# Altium footprint library Connector_Molex.PcbLib: 815 footprints (part 46 of 51)
Each footprint in its own frame and in the unit in brackets; x right, y up, seen from the top. Pads: shape width x height; smd on the part's side, far side on the other; paste and mask are expansions set on the pad; w line width, h text height; cw(c..) or ccw(c..) is an arc to the next point about the centre after c.
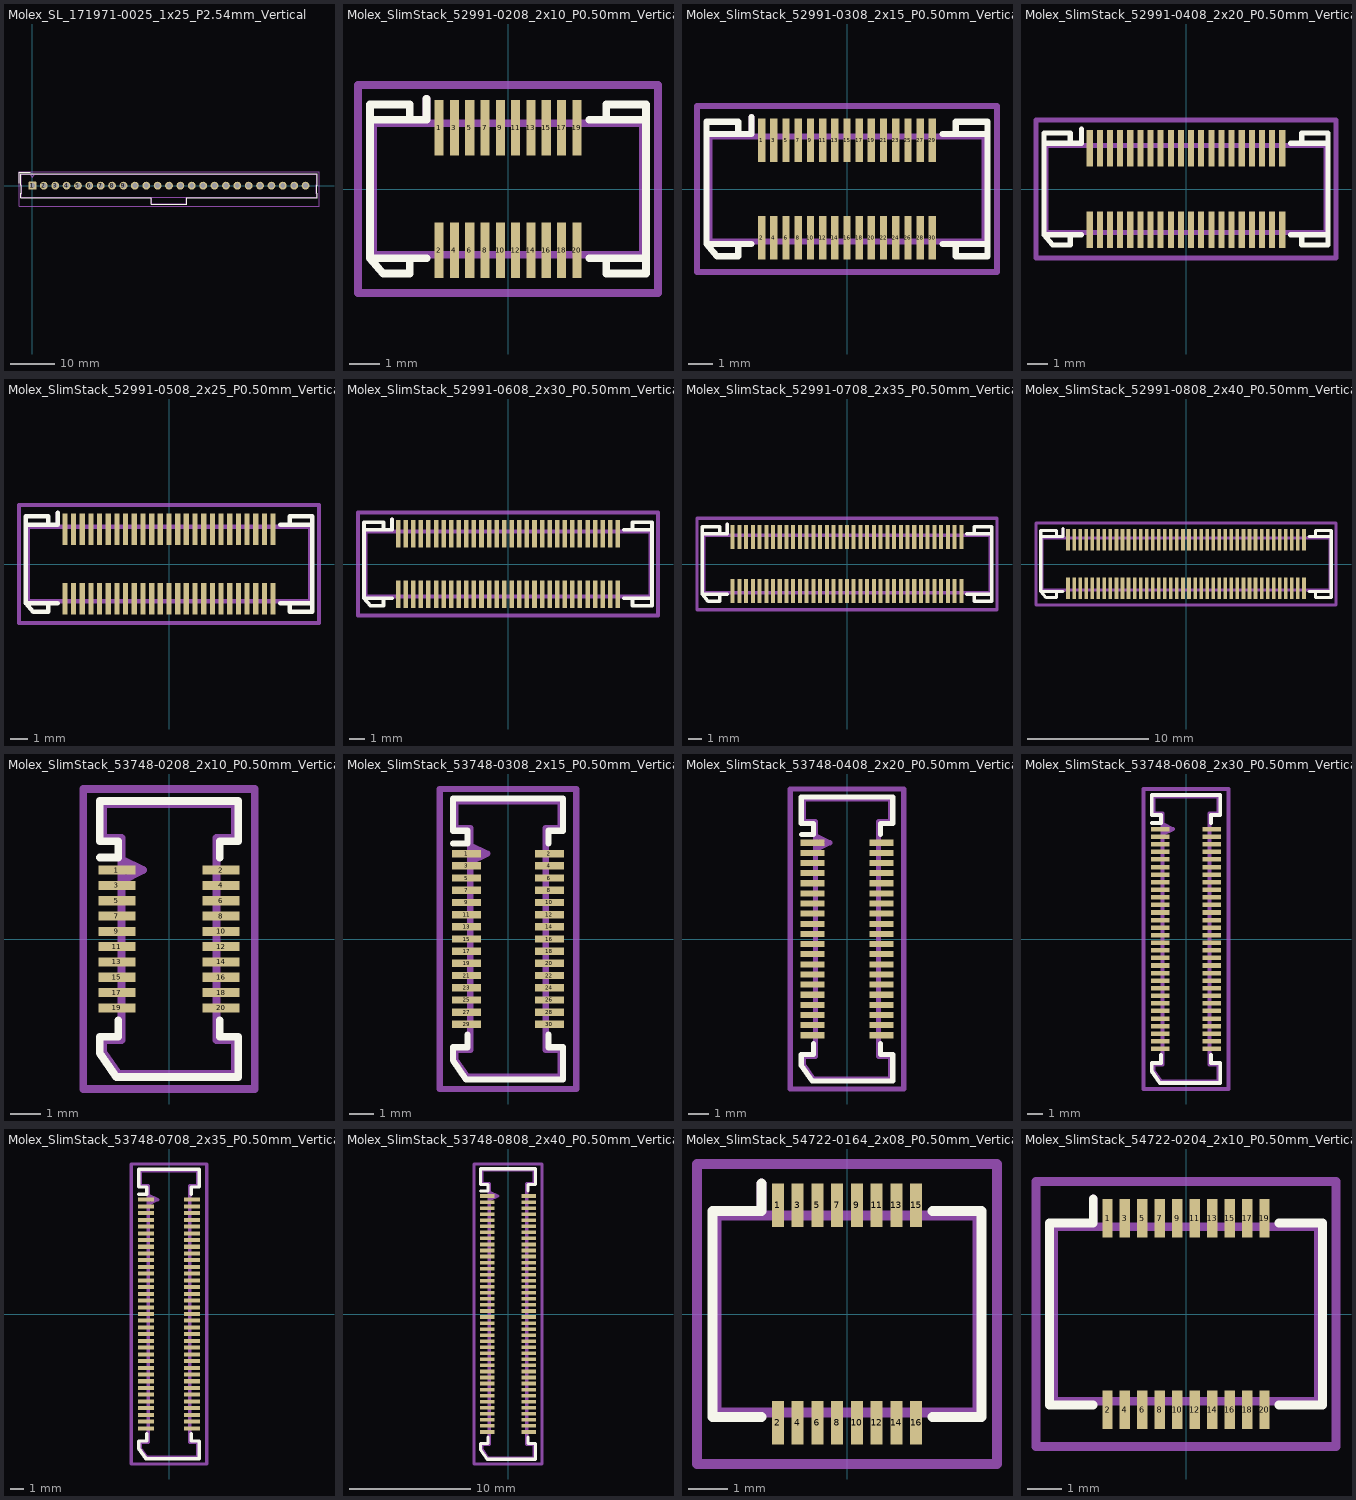
[diagram p45: the footprints below, top view; thin cyan lines are the x and y axes]

## Molex_SL_171971-0025_1x25_P2.54mm_Vertical [mm]
pads (25):
  rrect14% 1.74x1.74 hole 1.09: 1(0,0)
  round 1.74 hole 1.09: 2(2.54,0) 3(5.08,0) 4(7.62,0) 5(10.16,0) 6(12.7,0) 7(15.24,0) 8(17.78,0) 9(20.32,0) 10(22.86,0) 11(25.4,0) 12(27.94,0) 13(30.48,0) 14(33.02,0) 15(35.56,0) 16(38.1,0) 17(40.64,0) 18(43.18,0) 19(45.72,0) 20(48.26,0) 21(50.8,0) 22(53.34,0) 23(55.88,0) 24(58.42,0) 25(60.96,0)
F.SilkS:
  lines w0.254: -2.91,0.55 -2.91,2.96 -0.5,2.96 ; -2.61,-2.66 26.56,-2.66 26.56,-4.16 34.4,-4.16 34.4,-2.66 63.57,-2.66 63.57,-1.68 63.44,-1.68 63.44,0.13 63.57,0.13 63.57,2.66 -2.61,2.66 -2.61,0.13 -2.48,0.13 -2.48,-1.68 -2.61,-1.68 -2.61,-2.66
Top Assembly:
  lines w0.254: -0.5,2.55 0,1.843 0.5,2.55 ; 26.67,-2.55 26.67,-4.05 34.29,-4.05 34.29,-2.55 ; -2.5,-2.55 63.46,-2.55 63.46,-1.79 63.33,-1.79 63.33,0.24 63.46,0.24 63.46,2.55 -2.5,2.55 -2.5,0.24 -2.37,0.24 -2.37,-1.79 -2.5,-1.79 -2.5,-2.55
  text "'.Designator'" at 26.433,-2.69 h1
Top Courtyard:
  lines w0.254: -3,-4.55 63.96,-4.55 63.96,3.05 -3,3.05 -3,-4.55
Top Designator:
  text ".Designator" at 22.862,-1.258 h1.52

## Molex_SlimStack_52991-0208_2x10_P0.50mm_Vertical [mm]
pads (20):
  rect 0.3x1.8 smd: 1(-2.25,2) 2(-2.25,-2) 3(-1.75,2) 4(-1.75,-2) 5(-1.25,2) 6(-1.25,-2) 7(-0.75,2) 8(-0.75,-2) 9(-0.25,2) 10(-0.25,-2) 11(0.25,2) 12(0.25,-2) 13(0.75,2) 14(0.75,-2) 15(1.25,2) 16(1.25,-2) 17(1.75,2) 18(1.75,-2) 19(2.25,2) 20(2.25,-2)
F.SilkS:
  lines w0.254: -3.21,-2.26 -3.21,-2.76 -4.077,-2.76 -4.51,-2.26 ; -3.21,2.26 -3.21,2.76 -4.51,2.76 -4.51,2.26 ; -2.66,-2.26 -4.51,-2.26 ; -2.66,2.95 -2.66,2.26 -4.51,2.26 ; 2.66,-2.26 4.51,-2.26 ; 2.66,2.26 4.51,2.26 ; 3.21,-2.26 3.21,-2.76 4.51,-2.76 4.51,-2.26 ; 3.21,2.26 3.21,2.76 4.51,2.76 4.51,2.26 ; -4.51,-2.26 -4.51,2.26 ; 4.51,-2.26 4.51,2.26
Top Assembly:
  lines w0.254: -2.66,2.26 -2.66,2.95 ; -4.4,-2.15 4.4,-2.15 4.4,2.15 -4.4,2.15 -4.4,-2.15
  text "'.Designator'" at -4.047,-0.84 h1
Top Courtyard:
  lines w0.254: -4.9,-3.4 4.9,-3.4 4.9,3.4 -4.9,3.4 -4.9,-3.4
Top Designator:
  text ".Designator" at -7.618,-0.508 h1.52

## Molex_SlimStack_52991-0308_2x15_P0.50mm_Vertical [mm]
pads (30):
  rect 0.3x1.8 smd: 1(-3.5,2) 2(-3.5,-2) 3(-3,2) 4(-3,-2) 5(-2.5,2) 6(-2.5,-2) 7(-2,2) 8(-2,-2) 9(-1.5,2) 10(-1.5,-2) 11(-1,2) 12(-1,-2) 13(-0.5,2) 14(-0.5,-2) 15(0,2) 16(0,-2) 17(0.5,2) 18(0.5,-2) 19(1,2) 20(1,-2) 21(1.5,2) 22(1.5,-2) 23(2,2) 24(2,-2) 25(2.5,2) 26(2.5,-2) 27(3,2) 28(3,-2) 29(3.5,2) 30(3.5,-2)
F.SilkS:
  lines w0.254: -4.46,-2.26 -4.46,-2.76 -5.327,-2.76 -5.76,-2.26 ; -4.46,2.26 -4.46,2.76 -5.76,2.76 -5.76,2.26 ; -3.91,-2.26 -5.76,-2.26 ; -3.91,2.95 -3.91,2.26 -5.76,2.26 ; 3.91,-2.26 5.76,-2.26 ; 3.91,2.26 5.76,2.26 ; 4.46,-2.26 4.46,-2.76 5.76,-2.76 5.76,-2.26 ; 4.46,2.26 4.46,2.76 5.76,2.76 5.76,2.26 ; -5.76,-2.26 -5.76,2.26 ; 5.76,-2.26 5.76,2.26
Top Assembly:
  lines w0.254: -3.91,2.26 -3.91,2.95 ; -5.65,-2.15 5.65,-2.15 5.65,2.15 -5.65,2.15 -5.65,-2.15
  text "'.Designator'" at -4.047,-0.84 h1
Top Courtyard:
  lines w0.254: -6.15,-3.4 6.15,-3.4 6.15,3.4 -6.15,3.4 -6.15,-3.4
Top Designator:
  text ".Designator" at -7.618,-0.508 h1.52

## Molex_SlimStack_52991-0408_2x20_P0.50mm_Vertical [mm]
pads (40):
  rect 0.3x1.8 smd: 1(-4.75,2) 2(-4.75,-2) 3(-4.25,2) 4(-4.25,-2) 5(-3.75,2) 6(-3.75,-2) 7(-3.25,2) 8(-3.25,-2) 9(-2.75,2) 10(-2.75,-2) 11(-2.25,2) 12(-2.25,-2) 13(-1.75,2) 14(-1.75,-2) 15(-1.25,2) 16(-1.25,-2) 17(-0.75,2) 18(-0.75,-2) 19(-0.25,2) 20(-0.25,-2) 21(0.25,2) 22(0.25,-2) 23(0.75,2) 24(0.75,-2) 25(1.25,2) 26(1.25,-2) 27(1.75,2) 28(1.75,-2) 29(2.25,2) 30(2.25,-2) 31(2.75,2) 32(2.75,-2) 33(3.25,2) 34(3.25,-2) 35(3.75,2) 36(3.75,-2) 37(4.25,2) 38(4.25,-2) 39(4.75,2) 40(4.75,-2)
F.SilkS:
  lines w0.254: -5.71,-2.26 -5.71,-2.76 -6.577,-2.76 -7.01,-2.26 ; -5.71,2.26 -5.71,2.76 -7.01,2.76 -7.01,2.26 ; -5.16,-2.26 -7.01,-2.26 ; -5.16,2.95 -5.16,2.26 -7.01,2.26 ; 5.16,-2.26 7.01,-2.26 ; 5.16,2.26 7.01,2.26 ; 5.71,-2.26 5.71,-2.76 7.01,-2.76 7.01,-2.26 ; 5.71,2.26 5.71,2.76 7.01,2.76 7.01,2.26 ; -7.01,-2.26 -7.01,2.26 ; 7.01,-2.26 7.01,2.26
Top Assembly:
  lines w0.254: -5.16,2.26 -5.16,2.95 ; -6.9,-2.15 6.9,-2.15 6.9,2.15 -6.9,2.15 -6.9,-2.15
  text "'.Designator'" at -4.047,-0.84 h1
Top Courtyard:
  lines w0.254: -7.4,-3.4 7.4,-3.4 7.4,3.4 -7.4,3.4 -7.4,-3.4
Top Designator:
  text ".Designator" at -7.618,-0.508 h1.52

## Molex_SlimStack_52991-0508_2x25_P0.50mm_Vertical [mm]
pads (50):
  rect 0.3x1.8 smd: 1(-6,2) 2(-6,-2) 3(-5.5,2) 4(-5.5,-2) 5(-5,2) 6(-5,-2) 7(-4.5,2) 8(-4.5,-2) 9(-4,2) 10(-4,-2) 11(-3.5,2) 12(-3.5,-2) 13(-3,2) 14(-3,-2) 15(-2.5,2) 16(-2.5,-2) 17(-2,2) 18(-2,-2) 19(-1.5,2) 20(-1.5,-2) 21(-1,2) 22(-1,-2) 23(-0.5,2) 24(-0.5,-2) 25(0,2) 26(0,-2) 27(0.5,2) 28(0.5,-2) 29(1,2) 30(1,-2) 31(1.5,2) 32(1.5,-2) 33(2,2) 34(2,-2) 35(2.5,2) 36(2.5,-2) 37(3,2) 38(3,-2) 39(3.5,2) 40(3.5,-2) 41(4,2) 42(4,-2) 43(4.5,2) 44(4.5,-2) 45(5,2) 46(5,-2) 47(5.5,2) 48(5.5,-2) 49(6,2) 50(6,-2)
F.SilkS:
  lines w0.254: -6.96,-2.26 -6.96,-2.76 -7.827,-2.76 -8.26,-2.26 ; -6.96,2.26 -6.96,2.76 -8.26,2.76 -8.26,2.26 ; -6.41,-2.26 -8.26,-2.26 ; -6.41,2.95 -6.41,2.26 -8.26,2.26 ; 6.41,-2.26 8.26,-2.26 ; 6.41,2.26 8.26,2.26 ; 6.96,-2.26 6.96,-2.76 8.26,-2.76 8.26,-2.26 ; 6.96,2.26 6.96,2.76 8.26,2.76 8.26,2.26 ; -8.26,-2.26 -8.26,2.26 ; 8.26,-2.26 8.26,2.26
Top Assembly:
  lines w0.254: -6.41,2.26 -6.41,2.95 ; -8.15,-2.15 -8.15,2.15 8.15,2.15 8.15,-2.15 -8.15,-2.15
  text "'.Designator'" at -4.047,-0.84 h1
Top Courtyard:
  lines w0.254: -8.65,-3.4 -8.65,3.4 8.65,3.4 8.65,-3.4 -8.65,-3.4
Top Designator:
  text ".Designator" at -7.618,-0.508 h1.52

## Molex_SlimStack_52991-0608_2x30_P0.50mm_Vertical [mm]
pads (60):
  rect 0.3x1.8 smd: 1(-7.25,2) 2(-7.25,-2) 3(-6.75,2) 4(-6.75,-2) 5(-6.25,2) 6(-6.25,-2) 7(-5.75,2) 8(-5.75,-2) 9(-5.25,2) 10(-5.25,-2) 11(-4.75,2) 12(-4.75,-2) 13(-4.25,2) 14(-4.25,-2) 15(-3.75,2) 16(-3.75,-2) 17(-3.25,2) 18(-3.25,-2) 19(-2.75,2) 20(-2.75,-2) 21(-2.25,2) 22(-2.25,-2) 23(-1.75,2) 24(-1.75,-2) 25(-1.25,2) 26(-1.25,-2) 27(-0.75,2) 28(-0.75,-2) 29(-0.25,2) 30(-0.25,-2) 31(0.25,2) 32(0.25,-2) 33(0.75,2) 34(0.75,-2) 35(1.25,2) 36(1.25,-2) 37(1.75,2) 38(1.75,-2) 39(2.25,2) 40(2.25,-2) 41(2.75,2) 42(2.75,-2) 43(3.25,2) 44(3.25,-2) 45(3.75,2) 46(3.75,-2) 47(4.25,2) 48(4.25,-2) 49(4.75,2) 50(4.75,-2) 51(5.25,2) 52(5.25,-2) 53(5.75,2) 54(5.75,-2) 55(6.25,2) 56(6.25,-2) 57(6.75,2) 58(6.75,-2) 59(7.25,2) 60(7.25,-2)
F.SilkS:
  lines w0.254: -8.21,-2.26 -8.21,-2.76 -9.077,-2.76 -9.51,-2.26 ; -8.21,2.26 -8.21,2.76 -9.51,2.76 -9.51,2.26 ; -7.66,-2.26 -9.51,-2.26 ; -7.66,2.95 -7.66,2.26 -9.51,2.26 ; 7.66,-2.26 9.51,-2.26 ; 7.66,2.26 9.51,2.26 ; 8.21,-2.26 8.21,-2.76 9.51,-2.76 9.51,-2.26 ; 8.21,2.26 8.21,2.76 9.51,2.76 9.51,2.26 ; -9.51,-2.26 -9.51,2.26 ; 9.51,-2.26 9.51,2.26
Top Assembly:
  lines w0.254: -7.66,2.26 -7.66,2.95 ; -9.4,-2.15 9.4,-2.15 9.4,2.15 -9.4,2.15 -9.4,-2.15
  text "'.Designator'" at -4.047,-0.84 h1
Top Courtyard:
  lines w0.254: -9.9,-3.4 9.9,-3.4 9.9,3.4 -9.9,3.4 -9.9,-3.4
Top Designator:
  text ".Designator" at -7.618,-0.508 h1.52

## Molex_SlimStack_52991-0708_2x35_P0.50mm_Vertical [mm]
pads (70):
  rect 0.3x1.8 smd: 1(-8.5,2) 2(-8.5,-2) 3(-8,2) 4(-8,-2) 5(-7.5,2) 6(-7.5,-2) 7(-7,2) 8(-7,-2) 9(-6.5,2) 10(-6.5,-2) 11(-6,2) 12(-6,-2) 13(-5.5,2) 14(-5.5,-2) 15(-5,2) 16(-5,-2) 17(-4.5,2) 18(-4.5,-2) 19(-4,2) 20(-4,-2) 21(-3.5,2) 22(-3.5,-2) 23(-3,2) 24(-3,-2) 25(-2.5,2) 26(-2.5,-2) 27(-2,2) 28(-2,-2) 29(-1.5,2) 30(-1.5,-2) 31(-1,2) 32(-1,-2) 33(-0.5,2) 34(-0.5,-2) 35(0,2) 36(0,-2) 37(0.5,2) 38(0.5,-2) 39(1,2) 40(1,-2) 41(1.5,2) 42(1.5,-2) 43(2,2) 44(2,-2) 45(2.5,2) 46(2.5,-2) 47(3,2) 48(3,-2) 49(3.5,2) 50(3.5,-2) 51(4,2) 52(4,-2) 53(4.5,2) 54(4.5,-2) 55(5,2) 56(5,-2) 57(5.5,2) 58(5.5,-2) 59(6,2) 60(6,-2) 61(6.5,2) 62(6.5,-2) 63(7,2) 64(7,-2) 65(7.5,2) 66(7.5,-2) 67(8,2) 68(8,-2) 69(8.5,2) 70(8.5,-2)
F.SilkS:
  lines w0.254: -9.46,-2.26 -9.46,-2.76 -10.327,-2.76 -10.76,-2.26 ; -9.46,2.26 -9.46,2.76 -10.76,2.76 -10.76,2.26 ; -8.91,-2.26 -10.76,-2.26 ; -8.91,2.95 -8.91,2.26 -10.76,2.26 ; 8.91,-2.26 10.76,-2.26 ; 8.91,2.26 10.76,2.26 ; 9.46,-2.26 9.46,-2.76 10.76,-2.76 10.76,-2.26 ; 9.46,2.26 9.46,2.76 10.76,2.76 10.76,2.26 ; -10.76,-2.26 -10.76,2.26 ; 10.76,-2.26 10.76,2.26
Top Assembly:
  lines w0.254: -8.91,2.26 -8.91,2.95 ; -10.65,-2.15 10.65,-2.15 10.65,2.15 -10.65,2.15 -10.65,-2.15
  text "'.Designator'" at -4.047,-0.84 h1
Top Courtyard:
  lines w0.254: -11.15,-3.4 11.15,-3.4 11.15,3.4 -11.15,3.4 -11.15,-3.4
Top Designator:
  text ".Designator" at -7.618,-0.508 h1.52

## Molex_SlimStack_52991-0808_2x40_P0.50mm_Vertical [mm]
pads (80):
  rect 0.3x1.8 smd: 1(-9.75,2) 2(-9.75,-2) 3(-9.25,2) 4(-9.25,-2) 5(-8.75,2) 6(-8.75,-2) 7(-8.25,2) 8(-8.25,-2) 9(-7.75,2) 10(-7.75,-2) 11(-7.25,2) 12(-7.25,-2) 13(-6.75,2) 14(-6.75,-2) 15(-6.25,2) 16(-6.25,-2) 17(-5.75,2) 18(-5.75,-2) 19(-5.25,2) 20(-5.25,-2) 21(-4.75,2) 22(-4.75,-2) 23(-4.25,2) 24(-4.25,-2) 25(-3.75,2) 26(-3.75,-2) 27(-3.25,2) 28(-3.25,-2) 29(-2.75,2) 30(-2.75,-2) 31(-2.25,2) 32(-2.25,-2) 33(-1.75,2) 34(-1.75,-2) 35(-1.25,2) 36(-1.25,-2) 37(-0.75,2) 38(-0.75,-2) 39(-0.25,2) 40(-0.25,-2) 41(0.25,2) 42(0.25,-2) 43(0.75,2) 44(0.75,-2) 45(1.25,2) 46(1.25,-2) 47(1.75,2) 48(1.75,-2) 49(2.25,2) 50(2.25,-2) 51(2.75,2) 52(2.75,-2) 53(3.25,2) 54(3.25,-2) 55(3.75,2) 56(3.75,-2) 57(4.25,2) 58(4.25,-2) 59(4.75,2) 60(4.75,-2) 61(5.25,2) 62(5.25,-2) 63(5.75,2) 64(5.75,-2) 65(6.25,2) 66(6.25,-2) 67(6.75,2) 68(6.75,-2) 69(7.25,2) 70(7.25,-2) 71(7.75,2) 72(7.75,-2) 73(8.25,2) 74(8.25,-2) 75(8.75,2) 76(8.75,-2) 77(9.25,2) 78(9.25,-2) 79(9.75,2) 80(9.75,-2)
F.SilkS:
  lines w0.254: -10.71,-2.26 -10.71,-2.76 -11.577,-2.76 -12.01,-2.26 ; -10.71,2.26 -10.71,2.76 -12.01,2.76 -12.01,2.26 ; -10.16,-2.26 -12.01,-2.26 ; -10.16,2.95 -10.16,2.26 -12.01,2.26 ; 10.16,-2.26 12.01,-2.26 ; 10.16,2.26 12.01,2.26 ; 10.71,-2.26 10.71,-2.76 12.01,-2.76 12.01,-2.26 ; 10.71,2.26 10.71,2.76 12.01,2.76 12.01,2.26 ; -12.01,-2.26 -12.01,2.26 ; 12.01,-2.26 12.01,2.26
Top Assembly:
  lines w0.254: -10.16,2.26 -10.16,2.95 ; -11.9,-2.15 11.9,-2.15 11.9,2.15 -11.9,2.15 -11.9,-2.15
  text "'.Designator'" at -4.047,-0.84 h1
Top Courtyard:
  lines w0.254: -12.4,-3.4 12.4,-3.4 12.4,3.4 -12.4,3.4 -12.4,-3.4
Top Designator:
  text ".Designator" at -7.618,-0.508 h1.52

## Molex_SlimStack_53748-0208_2x10_P0.50mm_Vertical [mm]
pads (20):
  rect 1.2x0.3 smd: 1(-1.7,2.25) 2(1.7,2.25) 3(-1.7,1.75) 4(1.7,1.75) 5(-1.7,1.25) 6(1.7,1.25) 7(-1.7,0.75) 8(1.7,0.75) 9(-1.7,0.25) 10(1.7,0.25) 11(-1.7,-0.25) 12(1.7,-0.25) 13(-1.7,-0.75) 14(1.7,-0.75) 15(-1.7,-1.25) 16(1.7,-1.25) 17(-1.7,-1.75) 18(1.7,-1.75) 19(-1.7,-2.25) 20(1.7,-2.25)
F.SilkS:
  lines w0.254: -2.25,2.66 -1.66,2.66 -1.66,3.19 -2.26,3.19 -2.26,4.51 2.26,4.51 2.26,3.19 1.66,3.19 1.66,2.66 ; -1.66,-2.66 -1.66,-3.19 -2.26,-3.19 -2.26,-3.735 -1.717,-4.51 2.26,-4.51 2.26,-3.19 1.66,-3.19 1.66,-2.66
Top Assembly:
  lines w0.254: -1.55,1.9 -0.85,2.25 -1.55,2.6 ; -2.15,-3.7 -1.66,-4.4 2.15,-4.4 2.15,-3.3 1.55,-3.3 1.55,3.3 2.15,3.3 2.15,4.4 -2.15,4.4 -2.15,3.3 -1.55,3.3 -1.55,-3.3 -2.15,-3.3 -2.15,-3.7
  text "'.Designator'" at 0.84,-4.047 h1
Top Courtyard:
  lines w0.254: -2.8,-4.9 2.8,-4.9 2.8,4.9 -2.8,4.9 -2.8,-4.9
Top Designator:
  text ".Designator" at -7.618,-0.508 h1.52

## Molex_SlimStack_53748-0308_2x15_P0.50mm_Vertical [mm]
pads (30):
  rect 1.2x0.3 smd: 1(-1.7,3.5) 2(1.7,3.5) 3(-1.7,3) 4(1.7,3) 5(-1.7,2.5) 6(1.7,2.5) 7(-1.7,2) 8(1.7,2) 9(-1.7,1.5) 10(1.7,1.5) 11(-1.7,1) 12(1.7,1) 13(-1.7,0.5) 14(1.7,0.5) 15(-1.7,0) 16(1.7,0) 17(-1.7,-0.5) 18(1.7,-0.5) 19(-1.7,-1) 20(1.7,-1) 21(-1.7,-1.5) 22(1.7,-1.5) 23(-1.7,-2) 24(1.7,-2) 25(-1.7,-2.5) 26(1.7,-2.5) 27(-1.7,-3) 28(1.7,-3) 29(-1.7,-3.5) 30(1.7,-3.5)
F.SilkS:
  lines w0.254: -2.25,3.91 -1.66,3.91 -1.66,4.44 -2.26,4.44 -2.26,5.76 2.26,5.76 2.26,4.44 1.66,4.44 1.66,3.91 ; -1.66,-3.91 -1.66,-4.44 -2.26,-4.44 -2.26,-4.985 -1.717,-5.76 2.26,-5.76 2.26,-4.44 1.66,-4.44 1.66,-3.91
Top Assembly:
  lines w0.254: -1.55,3.15 -0.85,3.5 -1.55,3.85 ; -2.15,-4.95 -1.66,-5.65 2.15,-5.65 2.15,-4.55 1.55,-4.55 1.55,4.55 2.15,4.55 2.15,5.65 -2.15,5.65 -2.15,4.55 -1.55,4.55 -1.55,-4.55 -2.15,-4.55 -2.15,-4.95
  text "'.Designator'" at 0.84,-4.047 h1
Top Courtyard:
  lines w0.254: -2.8,-6.15 2.8,-6.15 2.8,6.15 -2.8,6.15 -2.8,-6.15
Top Designator:
  text ".Designator" at -7.618,-0.508 h1.52

## Molex_SlimStack_53748-0408_2x20_P0.50mm_Vertical [mm]
pads (40):
  rect 1.2x0.3 smd: 1(-1.7,4.75) 2(1.7,4.75) 3(-1.7,4.25) 4(1.7,4.25) 5(-1.7,3.75) 6(1.7,3.75) 7(-1.7,3.25) 8(1.7,3.25) 9(-1.7,2.75) 10(1.7,2.75) 11(-1.7,2.25) 12(1.7,2.25) 13(-1.7,1.75) 14(1.7,1.75) 15(-1.7,1.25) 16(1.7,1.25) 17(-1.7,0.75) 18(1.7,0.75) 19(-1.7,0.25) 20(1.7,0.25) 21(-1.7,-0.25) 22(1.7,-0.25) 23(-1.7,-0.75) 24(1.7,-0.75) 25(-1.7,-1.25) 26(1.7,-1.25) 27(-1.7,-1.75) 28(1.7,-1.75) 29(-1.7,-2.25) 30(1.7,-2.25) 31(-1.7,-2.75) 32(1.7,-2.75) 33(-1.7,-3.25) 34(1.7,-3.25) 35(-1.7,-3.75) 36(1.7,-3.75) 37(-1.7,-4.25) 38(1.7,-4.25) 39(-1.7,-4.75) 40(1.7,-4.75)
F.SilkS:
  lines w0.254: -2.25,5.16 -1.66,5.16 -1.66,5.69 -2.26,5.69 -2.26,7.01 2.26,7.01 2.26,5.69 1.66,5.69 1.66,5.16 ; -1.66,-5.16 -1.66,-5.69 -2.26,-5.69 -2.26,-6.235 -1.717,-7.01 2.26,-7.01 2.26,-5.69 1.66,-5.69 1.66,-5.16
Top Assembly:
  lines w0.254: -1.55,4.4 -0.85,4.75 -1.55,5.1 ; -2.15,-6.2 -1.66,-6.9 2.15,-6.9 2.15,-5.8 1.55,-5.8 1.55,5.8 2.15,5.8 2.15,6.9 -2.15,6.9 -2.15,5.8 -1.55,5.8 -1.55,-5.8 -2.15,-5.8 -2.15,-6.2
  text "'.Designator'" at 0.84,-4.047 h1
Top Courtyard:
  lines w0.254: -2.8,-7.4 2.8,-7.4 2.8,7.4 -2.8,7.4 -2.8,-7.4
Top Designator:
  text ".Designator" at -7.618,-0.508 h1.52

## Molex_SlimStack_53748-0608_2x30_P0.50mm_Vertical [mm]
pads (60):
  rect 1.2x0.3 smd: 1(-1.7,7.25) 2(1.7,7.25) 3(-1.7,6.75) 4(1.7,6.75) 5(-1.7,6.25) 6(1.7,6.25) 7(-1.7,5.75) 8(1.7,5.75) 9(-1.7,5.25) 10(1.7,5.25) 11(-1.7,4.75) 12(1.7,4.75) 13(-1.7,4.25) 14(1.7,4.25) 15(-1.7,3.75) 16(1.7,3.75) 17(-1.7,3.25) 18(1.7,3.25) 19(-1.7,2.75) 20(1.7,2.75) 21(-1.7,2.25) 22(1.7,2.25) 23(-1.7,1.75) 24(1.7,1.75) 25(-1.7,1.25) 26(1.7,1.25) 27(-1.7,0.75) 28(1.7,0.75) 29(-1.7,0.25) 30(1.7,0.25) 31(-1.7,-0.25) 32(1.7,-0.25) 33(-1.7,-0.75) 34(1.7,-0.75) 35(-1.7,-1.25) 36(1.7,-1.25) 37(-1.7,-1.75) 38(1.7,-1.75) 39(-1.7,-2.25) 40(1.7,-2.25) 41(-1.7,-2.75) 42(1.7,-2.75) 43(-1.7,-3.25) 44(1.7,-3.25) 45(-1.7,-3.75) 46(1.7,-3.75) 47(-1.7,-4.25) 48(1.7,-4.25) 49(-1.7,-4.75) 50(1.7,-4.75) 51(-1.7,-5.25) 52(1.7,-5.25) 53(-1.7,-5.75) 54(1.7,-5.75) 55(-1.7,-6.25) 56(1.7,-6.25) 57(-1.7,-6.75) 58(1.7,-6.75) 59(-1.7,-7.25) 60(1.7,-7.25)
F.SilkS:
  lines w0.254: -2.25,7.66 -1.66,7.66 -1.66,8.19 -2.26,8.19 -2.26,9.51 2.26,9.51 2.26,8.19 1.66,8.19 1.66,7.66 ; -1.66,-7.66 -1.66,-8.19 -2.26,-8.19 -2.26,-8.735 -1.717,-9.51 2.26,-9.51 2.26,-8.19 1.66,-8.19 1.66,-7.66
Top Assembly:
  lines w0.254: -1.55,6.9 -0.85,7.25 -1.55,7.6 ; -2.15,-8.7 -1.66,-9.4 2.15,-9.4 2.15,-8.3 1.55,-8.3 1.55,8.3 2.15,8.3 2.15,9.4 -2.15,9.4 -2.15,8.3 -1.55,8.3 -1.55,-8.3 -2.15,-8.3 -2.15,-8.7
  text "'.Designator'" at 0.84,-4.047 h1
Top Courtyard:
  lines w0.254: -2.8,-9.9 2.8,-9.9 2.8,9.9 -2.8,9.9 -2.8,-9.9
Top Designator:
  text ".Designator" at -7.618,-0.508 h1.52

## Molex_SlimStack_53748-0708_2x35_P0.50mm_Vertical [mm]
pads (70):
  rect 1.2x0.3 smd: 1(-1.7,8.5) 2(1.7,8.5) 3(-1.7,8) 4(1.7,8) 5(-1.7,7.5) 6(1.7,7.5) 7(-1.7,7) 8(1.7,7) 9(-1.7,6.5) 10(1.7,6.5) 11(-1.7,6) 12(1.7,6) 13(-1.7,5.5) 14(1.7,5.5) 15(-1.7,5) 16(1.7,5) 17(-1.7,4.5) 18(1.7,4.5) 19(-1.7,4) 20(1.7,4) 21(-1.7,3.5) 22(1.7,3.5) 23(-1.7,3) 24(1.7,3) 25(-1.7,2.5) 26(1.7,2.5) 27(-1.7,2) 28(1.7,2) 29(-1.7,1.5) 30(1.7,1.5) 31(-1.7,1) 32(1.7,1) 33(-1.7,0.5) 34(1.7,0.5) 35(-1.7,0) 36(1.7,0) 37(-1.7,-0.5) 38(1.7,-0.5) 39(-1.7,-1) 40(1.7,-1) 41(-1.7,-1.5) 42(1.7,-1.5) 43(-1.7,-2) 44(1.7,-2) 45(-1.7,-2.5) 46(1.7,-2.5) 47(-1.7,-3) 48(1.7,-3) 49(-1.7,-3.5) 50(1.7,-3.5) 51(-1.7,-4) 52(1.7,-4) 53(-1.7,-4.5) 54(1.7,-4.5) 55(-1.7,-5) 56(1.7,-5) 57(-1.7,-5.5) 58(1.7,-5.5) 59(-1.7,-6) 60(1.7,-6) 61(-1.7,-6.5) 62(1.7,-6.5) 63(-1.7,-7) 64(1.7,-7) 65(-1.7,-7.5) 66(1.7,-7.5) 67(-1.7,-8) 68(1.7,-8) 69(-1.7,-8.5) 70(1.7,-8.5)
F.SilkS:
  lines w0.254: -2.25,8.91 -1.66,8.91 -1.66,9.44 -2.26,9.44 -2.26,10.76 2.26,10.76 2.26,9.44 1.66,9.44 1.66,8.91 ; -1.66,-8.91 -1.66,-9.44 -2.26,-9.44 -2.26,-9.985 -1.717,-10.76 2.26,-10.76 2.26,-9.44 1.66,-9.44 1.66,-8.91
Top Assembly:
  lines w0.254: -1.55,8.15 -0.85,8.5 -1.55,8.85 ; -2.15,-9.95 -1.66,-10.65 2.15,-10.65 2.15,-9.55 1.55,-9.55 1.55,9.55 2.15,9.55 2.15,10.65 -2.15,10.65 -2.15,9.55 -1.55,9.55 -1.55,-9.55 -2.15,-9.55 -2.15,-9.95
  text "'.Designator'" at 0.84,-4.047 h1
Top Courtyard:
  lines w0.254: -2.8,-11.15 2.8,-11.15 2.8,11.15 -2.8,11.15 -2.8,-11.15
Top Designator:
  text ".Designator" at -7.618,-0.508 h1.52

## Molex_SlimStack_53748-0808_2x40_P0.50mm_Vertical [mm]
pads (80):
  rect 1.2x0.3 smd: 1(-1.7,9.75) 2(1.7,9.75) 3(-1.7,9.25) 4(1.7,9.25) 5(-1.7,8.75) 6(1.7,8.75) 7(-1.7,8.25) 8(1.7,8.25) 9(-1.7,7.75) 10(1.7,7.75) 11(-1.7,7.25) 12(1.7,7.25) 13(-1.7,6.75) 14(1.7,6.75) 15(-1.7,6.25) 16(1.7,6.25) 17(-1.7,5.75) 18(1.7,5.75) 19(-1.7,5.25) 20(1.7,5.25) 21(-1.7,4.75) 22(1.7,4.75) 23(-1.7,4.25) 24(1.7,4.25) 25(-1.7,3.75) 26(1.7,3.75) 27(-1.7,3.25) 28(1.7,3.25) 29(-1.7,2.75) 30(1.7,2.75) 31(-1.7,2.25) 32(1.7,2.25) 33(-1.7,1.75) 34(1.7,1.75) 35(-1.7,1.25) 36(1.7,1.25) 37(-1.7,0.75) 38(1.7,0.75) 39(-1.7,0.25) 40(1.7,0.25) 41(-1.7,-0.25) 42(1.7,-0.25) 43(-1.7,-0.75) 44(1.7,-0.75) 45(-1.7,-1.25) 46(1.7,-1.25) 47(-1.7,-1.75) 48(1.7,-1.75) 49(-1.7,-2.25) 50(1.7,-2.25) 51(-1.7,-2.75) 52(1.7,-2.75) 53(-1.7,-3.25) 54(1.7,-3.25) 55(-1.7,-3.75) 56(1.7,-3.75) 57(-1.7,-4.25) 58(1.7,-4.25) 59(-1.7,-4.75) 60(1.7,-4.75) 61(-1.7,-5.25) 62(1.7,-5.25) 63(-1.7,-5.75) 64(1.7,-5.75) 65(-1.7,-6.25) 66(1.7,-6.25) 67(-1.7,-6.75) 68(1.7,-6.75) 69(-1.7,-7.25) 70(1.7,-7.25) 71(-1.7,-7.75) 72(1.7,-7.75) 73(-1.7,-8.25) 74(1.7,-8.25) 75(-1.7,-8.75) 76(1.7,-8.75) 77(-1.7,-9.25) 78(1.7,-9.25) 79(-1.7,-9.75) 80(1.7,-9.75)
F.SilkS:
  lines w0.254: -2.25,10.16 -1.66,10.16 -1.66,10.69 -2.26,10.69 -2.26,12.01 2.26,12.01 2.26,10.69 1.66,10.69 1.66,10.16 ; -1.66,-10.16 -1.66,-10.69 -2.26,-10.69 -2.26,-11.235 -1.717,-12.01 2.26,-12.01 2.26,-10.69 1.66,-10.69 1.66,-10.16
Top Assembly:
  lines w0.254: -1.55,9.4 -0.85,9.75 -1.55,10.1 ; -2.15,-11.2 -1.66,-11.9 2.15,-11.9 2.15,-10.8 1.55,-10.8 1.55,10.8 2.15,10.8 2.15,11.9 -2.15,11.9 -2.15,10.8 -1.55,10.8 -1.55,-10.8 -2.15,-10.8 -2.15,-11.2
  text "'.Designator'" at 0.84,-4.047 h1
Top Courtyard:
  lines w0.254: -2.8,-12.4 2.8,-12.4 2.8,12.4 -2.8,12.4 -2.8,-12.4
Top Designator:
  text ".Designator" at -7.618,-0.508 h1.52

## Molex_SlimStack_54722-0164_2x08_P0.50mm_Vertical [mm]
pads (16):
  rect 0.3x1.1 smd: 1(-1.75,2.75) 2(-1.75,-2.75) 3(-1.25,2.75) 4(-1.25,-2.75) 5(-0.75,2.75) 6(-0.75,-2.75) 7(-0.25,2.75) 8(-0.25,-2.75) 9(0.25,2.75) 10(0.25,-2.75) 11(0.75,2.75) 12(0.75,-2.75) 13(1.25,2.75) 14(1.25,-2.75) 15(1.75,2.75) 16(1.75,-2.75)
F.SilkS:
  lines w0.254: -2.16,-2.61 -3.41,-2.61 -3.41,2.61 -2.16,2.61 -2.16,3.3 ; 2.16,-2.61 3.41,-2.61 3.41,2.61 2.16,2.61
Top Assembly:
  lines w0.254: -2.16,2.61 -2.16,3.3 ; -3.3,-2.5 3.3,-2.5 3.3,2.5 -3.3,2.5 -3.3,-2.5
  text "'.Designator'" at -4.047,-0.84 h1
Top Courtyard:
  lines w0.254: -3.8,-3.8 3.8,-3.8 3.8,3.8 -3.8,3.8 -3.8,-3.8
Top Designator:
  text ".Designator" at -7.752,-0.508 h1.52

## Molex_SlimStack_54722-0204_2x10_P0.50mm_Vertical [mm]
pads (20):
  rect 0.3x1.1 smd: 1(-2.25,2.75) 2(-2.25,-2.75) 3(-1.75,2.75) 4(-1.75,-2.75) 5(-1.25,2.75) 6(-1.25,-2.75) 7(-0.75,2.75) 8(-0.75,-2.75) 9(-0.25,2.75) 10(-0.25,-2.75) 11(0.25,2.75) 12(0.25,-2.75) 13(0.75,2.75) 14(0.75,-2.75) 15(1.25,2.75) 16(1.25,-2.75) 17(1.75,2.75) 18(1.75,-2.75) 19(2.25,2.75) 20(2.25,-2.75)
F.SilkS:
  lines w0.254: -2.66,-2.61 -3.91,-2.61 -3.91,2.61 -2.66,2.61 -2.66,3.3 ; 2.66,-2.61 3.91,-2.61 3.91,2.61 2.66,2.61
Top Assembly:
  lines w0.254: -2.66,2.61 -2.66,3.3 ; -3.8,-2.5 3.8,-2.5 3.8,2.5 -3.8,2.5 -3.8,-2.5
  text "'.Designator'" at -4.047,-0.84 h1
Top Courtyard:
  lines w0.254: -4.3,-3.8 4.3,-3.8 4.3,3.8 -4.3,3.8 -4.3,-3.8
Top Designator:
  text ".Designator" at -7.618,-0.508 h1.52